# EAGLE library part TPS2121RUXR (library TexasInstruments)
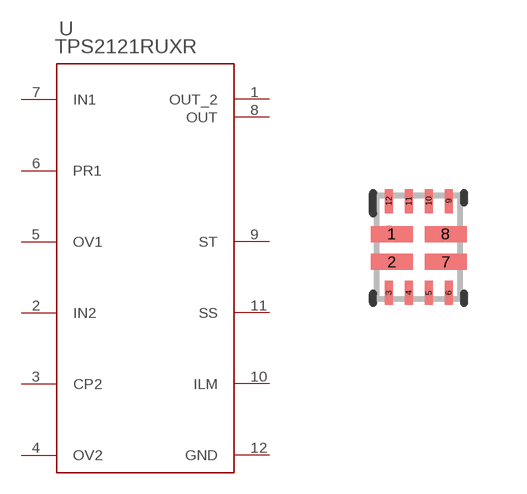
[diagram p17: symbol with the pads of RUX0012A; footprint RUX0012A]

Designator prefix U

## TPS2121RUXR (COPYRIGHT: Copyright (C) 2023 Ultra Librarian. All rights reserved.; MANUFACTURER_PART_NUMBER: TPS2121RUXR; MFR_NAME: Texas Instruments; REFDES: RefDes; TYPE: TYPE)  [RUX0012A]
1  OUT_2  pwr
2  IN2  pwr
3  CP2  in
4  OV2  in
5  OV1  in
6  PR1  in
7  IN1  pwr
8  OUT  pwr
9  ST  out
10  ILM
11  SS
12  GND  pwr

## Footprint RUX0012A (pad centres in mm)
smd 1.05 x 0.4: 1 -0.675,0.325; 2 -0.675,-0.375; 7 0.675,-0.375; 8 0.675,0.325
smd 0.2 x 0.6: 3 -0.75,-1.15; 4 -0.25,-1.15; 5 0.25,-1.15; 6 0.75,-1.15; 9 0.75,1.15; 10 0.25,1.15; 11 -0.25,1.15; 12 -0.75,1.15